# Altium footprint library PcbLib1.PcbLib: 18 footprints (part 1 of 2)
Each footprint in its own frame and in the unit in brackets; x right, y up, seen from the top. Pads: shape width x height; smd on the part's side, far side on the other; paste and mask are expansions set on the pad; w line width, h text height; cw(c..) or ccw(c..) is an arc to the next point about the centre after c.
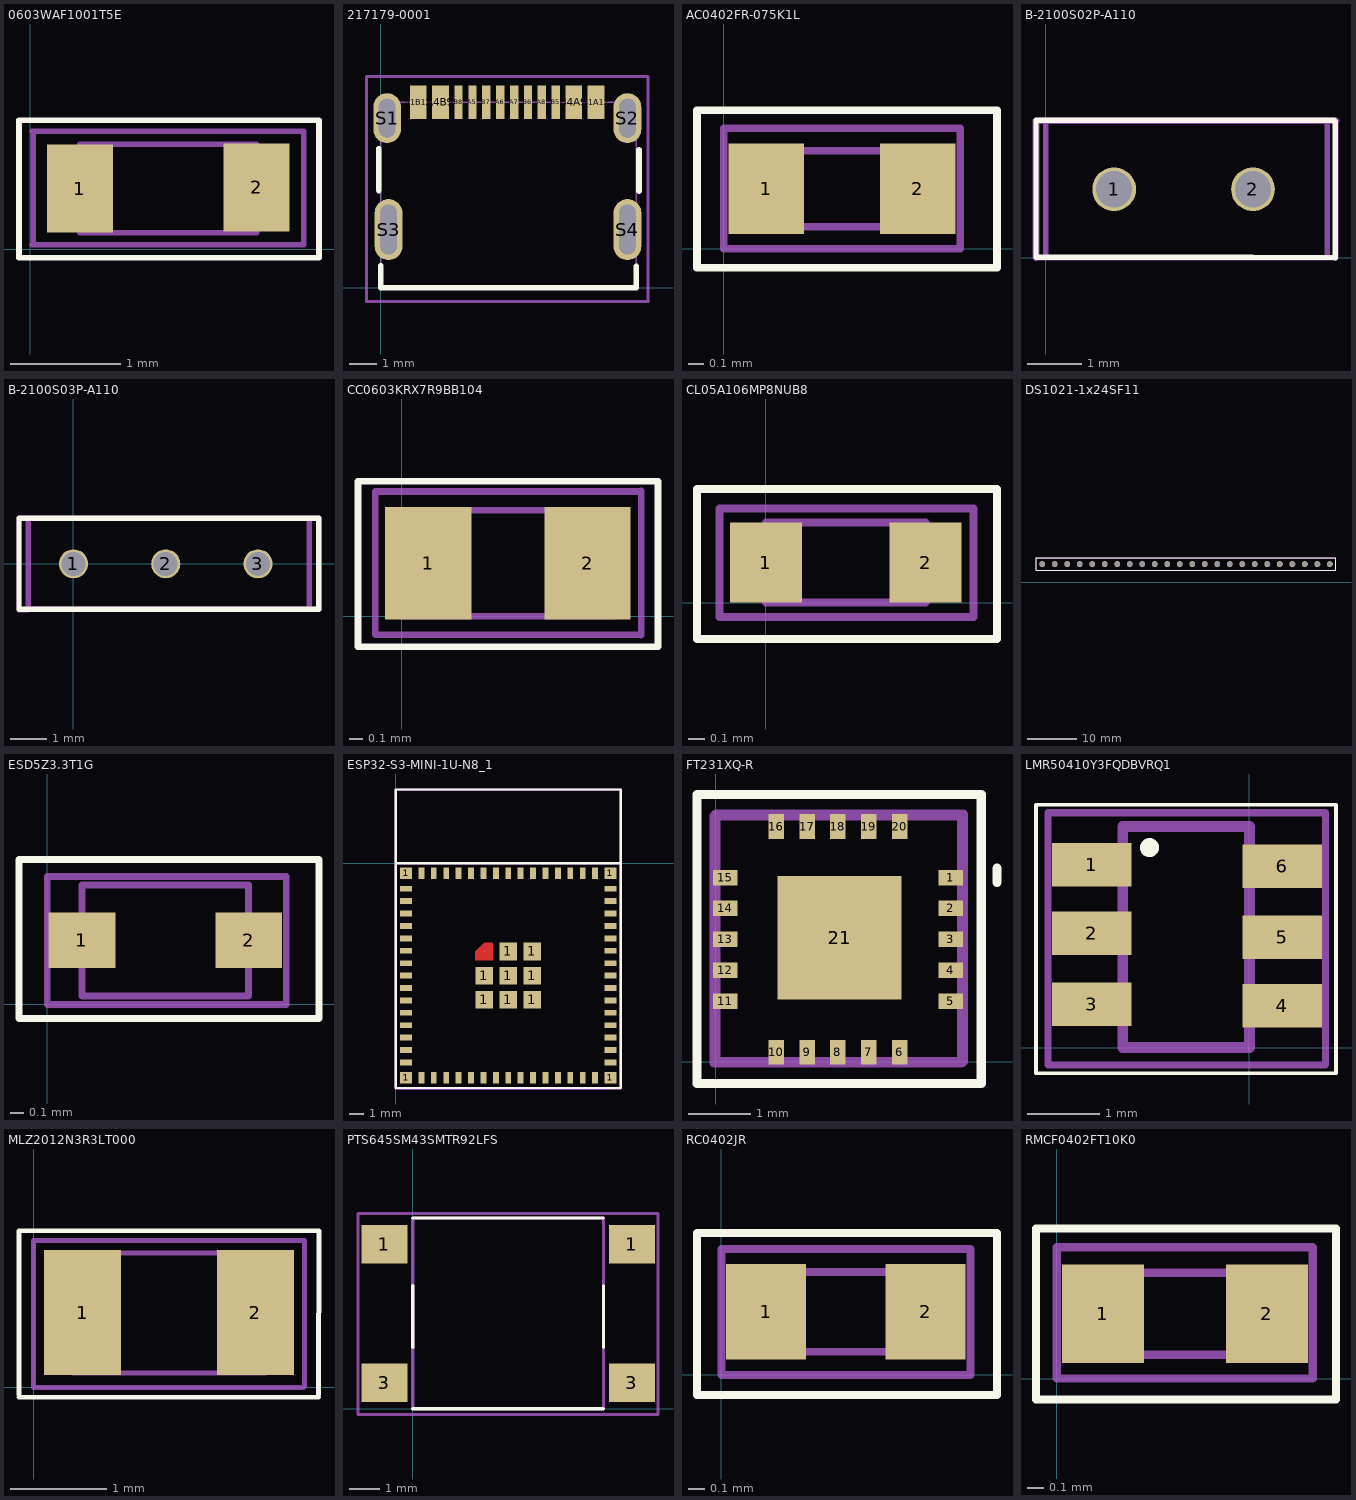
[diagram p0: the footprints below, top view; thin cyan lines are the x and y axes]

## 0603WAF1001T5E [mm]
pads (2):
  rect 0.6x0.8 smd mask+0.1: 1(0.45,0.55) 2(2.05,0.56)
Top Overlay:
  lines w0.05: -0.102,-0.077 -0.102,0.303 -0.102,0.813 -0.102,1.168 0.657,1.168 1.882,1.168 2.616,1.168 2.616,0.838 2.616,0.229 2.616,-0.076 -0.102,-0.076
Top 3D Body:
  lines w0.05: 0.45,0.15 2.05,0.15 2.05,0.95 0.45,0.95 0.45,0.15
top courtyard:
  lines w0.05: 0.02,0.04 2.48,0.04 2.48,0.56 2.48,1.06 ; 0.02,1.07 0.681,1.07 1.839,1.07 2.48,1.07 ; 0.025,0.039 0.025,1.069
3D body "0603WAF1001T5E.stp": height 0.43, standoff -0.02, extent 0.45,0.16 2.05,0.96

## 217179-0001 [mm]
pads (16):
  rect 0.6x1.2 smd mask+0: A1B12(1.35,6.68) A4B9(2.15,6.68) B1A12(7.75,6.68) B4A9(6.95,6.68)
  rect 0.3x1.2 smd mask+0: A5(3.3,6.68) A6(4.3,6.68) A7(4.8,6.68) A8(5.8,6.68) B5(6.3,6.68) B6(5.3,6.68) B7(3.8,6.68) B8(2.8,6.68)
  oval 1x1.8 hole 0.6 slot 1.4 at 90 deg unplated mask+0: S1(0.23,6.11)
  oval 1x1.8 hole 0.6 slot 1.4 at 90 deg mask+0: S2(8.88,6.11)
  oval 1x2.2 hole 0.6 slot 1.8 at 90 deg mask+0: S3(0.28,2.1) S4(8.88,2.1)
Top Overlay:
  lines w0.1: 0,0 0,0.01 ; 9.19,0.01 9.2,0 ; 9.19,0.78 9.2,0.79
  lines w0.2: -0.076,3.505 -0.076,5.005 ; 0,0.79 0,0.01 9.19,0.01 9.19,0.78 ; 9.296,3.488 9.296,4.978
Top 3D Body:
  lines w0.05: 0.28,6.67 -0.02,6.67 0,6.65 0,0 0.28,0 8.88,0 9.2,0 9.2,6.7 ; 0.28,6.68 4.8,6.68 8.88,6.68 ; 9.2,6.7 8.92,6.7 9.2,6.7
top courtyard:
  lines w0.1: -0.51,-0.49 9.64,-0.49 ; -0.51,7.61 -0.3,7.61 9.62,7.61 9.62,-0.47 ; -0.5,-0.49 -0.51,-0.48 -0.51,7.53 -0.51,7.6 -0.5,7.61
3D body "217179-0001.stp": height 1.67, standoff -2.39, extent 0.15,-0.245 9.09,6.505

## AC0402FR-075K1L [mm]
pads (2):
  rect 0.5x0.6 smd mask+0.01: 1(0.28,0.395) 2(1.28,0.395)
Top Overlay:
  lines w0.05: -0.178,-0.127 -0.178,0.686 -0.178,0.914 -0.064,0.914 0.349,0.914 1.175,0.914 1.587,0.914 1.803,0.914 1.803,-0.127 -0.178,-0.127
Top 3D Body:
  lines w0.05: 0.28,0.145 0.28,0.645 1.28,0.645 1.28,0.145 0.28,0.145
top courtyard:
  lines w0.05: 0,0.79 0,0.593 0,0.198 0,0 1.56,0 1.56,0.198 1.56,0.593 1.56,0.795 1.215,0.795 0.405,0.795 0,0.795
3D body "AC0402FR-075K1L.STEP": height 0.37, standoff 0, extent 0.28,0.15 1.28,0.65

## B-2100S02P-A110 [mm]
pads (2):
  round 0.8 hole 0.66: 1(1.25,1.25) 2(3.79,1.25)
Top Overlay:
  lines w0.1: 1.21,0.01 0.867,0.01 0.182,0.01 -0.18,0.01 -0.18,2.51 1.22,2.51 3.9,2.51 5.28,2.51 ; 1.22,0.01 3.78,0.01 5.3,0 5.3,2.49
Top 3D Body:
  lines w0.1: 0,0 5.15,0 5.15,2.5 0,2.5 0,0.01
top courtyard:
  lines w0.1: -0.18,0 5.31,0 5.31,2.5
  lines w0.12: -0.18,0 -0.18,0.295 -0.18,0.905 -0.18,1.21 ; -0.18,1.25 -0.18,2.5 ; -0.16,2.5 5.31,2.5
3D body "826629-2--3DModel-STEP-1.STEP": height 9.5, standoff -3.2, extent 0.03,-0.02 5.11,2.48

## B-2100S03P-A110 [mm]
pads (3):
  round 0.8 hole 0.66: 1(0,0) 2(2.54,0) 3(5.08,0)
Top Overlay:
  lines w0.15: -1.5,-1.25 0,-1.25 5.1,-1.25 6.75,-1.25 6.75,1.25 5.1,1.25 0,1.25 -1.5,1.25 -1.5,-1.25
Top 3D Body:
  lines w0.15: -1.24,0 -1.24,-1.25 6.49,-1.25 6.49,1.25 -1.24,1.25 -1.24,0.942 -1.24,0.317 -1.24,0.005
top courtyard:
  lines w0.15: -1.26,-1.26 -1.5,-1.26 -1.5,1.25 -1.25,1.25 0.753,1.25 4.757,1.25 6.76,1.25 6.76,-1.25 -1.25,-1.25
3D body "826629-3--3DModel-STEP-1.STEP": height 9.5, standoff -3.2, extent -1.23,-1.3 6.39,1.2

## CC0603KRX7R9BB104 [mm]
pads (2):
  rect 0.65x0.85 smd mask+0.05: 1(0.2,0.4) 2(1.4,0.4)
Top Overlay:
  lines w0.05: -0.33,-0.229 1.93,-0.229 1.93,1.016 1.451,1.016 0.226,1.016 -0.33,1.016 -0.33,-0.229
Top 3D Body:
  lines w0.05: 0,0 1.6,0 1.6,0.8 0,0.8 0,0
top courtyard:
  lines w0.05: 1.79,0.94 1.292,0.94 0.298,0.94 -0.2,0.94 -0.2,-0.14 1.8,-0.14 ; 1.803,-0.144 1.803,0.946
3D body "CC0603KRX7R9BB104.stp": height 0.9, standoff 0, extent 0,0 1.6,0.8

## CL05A106MP8NUB8 [mm]
pads (2):
  rect 0.45x0.5 smd mask+0.05: 1(0,0.25) 2(1,0.25)
Top Overlay:
  lines w0.05: -0.432,-0.229 -0.432,0.711 -0.057,0.711 1.168,0.711 1.448,0.711 1.448,-0.229 -0.432,-0.229
Top 3D Body:
  lines w0.05: 0,0 1,0 1,0.5 0,0.5 0,0
top courtyard:
  lines w0.05: -0.29,-0.09 -0.29,0.59 1.3,0.59 1.3,-0.09 -0.29,-0.09
3D body "CL05A106MP8NUB8.stp": height 0.9, standoff 0, extent 0,0 1,0.5

## DS1021-1x24SF11 [mm]
pads (24):
  round 1.2 hole 1.02 mask+0.13: 1(17.59,3.72) 2(20.13,3.72) 3(22.67,3.72) 4(25.21,3.72) 5(27.75,3.72) 6(30.29,3.72) 7(32.83,3.72) 8(35.37,3.72) 9(37.91,3.72) 10(40.45,3.72) 11(42.99,3.72) 12(45.53,3.72) 13(48.07,3.72) 14(50.61,3.72) 15(53.15,3.72) 16(55.69,3.72) 17(58.23,3.72) 18(60.77,3.72) 19(63.31,3.72) 20(65.85,3.72) 21(68.39,3.72) 22(70.93,3.72) 23(73.47,3.72) 24(76.01,3.72)
Top Overlay:
  lines w0.15: 16.33,2.5 16.33,5 77.25,5 77.25,2.5 16.33,2.5
Top 3D Body:
  lines w0.05: 16.34,2.52 77.26,2.52 77.26,4.95 16.34,4.95 16.34,2.52
top courtyard:
  lines w0.15: 16.34,2.54 16.34,3.71 ; 16.34,3.72 16.34,4.97 77.25,4.97 77.25,2.5 16.38,2.5
3D body "826629-6--3DModel-STEP-1.STEP": height 9.24, standoff -3.46, extent 61.98,2.45 77.22,4.95
3D body "826629-6--3DModel-STEP-1.STEP": height 9.24, standoff -3.46, extent 46.73,2.45 61.97,4.95
3D body "826629-6--3DModel-STEP-1.STEP": height 9.24, standoff -3.46, extent 31.51,2.5 46.75,5
3D body "826629-6--3DModel-STEP-1.STEP": height 9.24, standoff -3.46, extent 16.29,2.45 31.53,4.95

## ESD5Z3.3T1G [mm]
pads (2):
  rect 0.48x0.4 smd mask+0: 1(0.25,0.46) 2(1.45,0.46)
Top Overlay:
  lines w0.05: -0.203,-0.102 1.956,-0.102 1.956,1.041 1.501,1.041 0.276,1.041 -0.203,1.041 -0.203,0.768 -0.203,0.197 -0.203,-0.089
Top 3D Body:
  lines w0.05: 0.25,0.06 0.25,0.86 0.85,0.86 1.45,0.86 1.45,0.06 0.25,0.06
top courtyard:
  lines w0.05: 0,0 0,0.92 1.72,0.92 1.72,0 0,0
3D body "ESD5Z3.3T1G.stp": height 0.7, standoff 0, extent 0.05,0.06 1.65,0.86

## ESP32-S3-MINI-1U-N8_1 [mm]
pads (73):
  rect 0.8x0.8 smd mask+0.05: 1(0.7,-14.7) 1(0.7,-0.7) 1(14.7,-14.7) 1(14.7,-0.7)
  rect 0.8x0.4 smd mask+0.05: 1(0.7,-2.6) 1(0.7,-1.75) 1(14.7,-4.3) 1(14.7,-3.45) 3(0.7,-3.45) 4(0.7,-4.3) 5(0.7,-5.15) 6(0.7,-6) 7(0.7,-6.85) 8(0.7,-7.7) 9(0.7,-8.55) 10(0.7,-9.4) 11(0.7,-10.25) 12(0.7,-11.1) 13(0.7,-11.95) 14(0.7,-12.8) 15(0.7,-13.65) 31(14.7,-13.65) 32(14.7,-12.8) 33(14.7,-11.95) 34(14.7,-11.1) 35(14.7,-10.25) 36(14.7,-9.4) 37(14.7,-8.55) 38(14.7,-7.7) 39(14.7,-6.85) 40(14.7,-6) 41(14.7,-5.15) 44(14.7,-2.6) 45(14.7,-1.75)
  rect 0.4x0.8 smd mask+0.05: 1(1.75,-0.7) 1(2.6,-0.7) 1(3.45,-0.7) 1(4.3,-0.7) 1(5.15,-0.7) 1(6,-0.7) 1(6.85,-0.7) 1(7.7,-0.7) 1(8.55,-0.7) 1(9.4,-0.7) 1(10.25,-0.7) 1(11.1,-0.7) 1(11.95,-0.7) 1(12.8,-0.7) 1(13.65,-0.7) 16(1.75,-14.7) 17(2.6,-14.7) 18(3.45,-14.7) 19(4.3,-14.7) 20(5.15,-14.7) 21(6,-14.7) 22(6.85,-14.7) 23(7.7,-14.7) 24(8.55,-14.7) 25(9.4,-14.7) 26(10.25,-14.7) 27(11.1,-14.7) 28(11.95,-14.7) 29(12.8,-14.7) 30(13.65,-14.7)
  rect 1.2x1.2 smd mask+0.05: 1(6.05,-9.35) 1(6.05,-7.7) 1(7.7,-9.35) 1(7.7,-7.7) 1(7.7,-6.05) 1(9.35,-9.35) 1(9.35,-7.7) 1(9.35,-6.05)
  round 0.025 smd mask+0.05: 1(6.05,-6.05)
Top Layer:
  region: 5.45,-6.05 6.06,-5.45 6.65,-5.45 6.65,-6.65 5.45,-6.65
Top Overlay:
  lines w0.15: 0,0 0,5.05 15.4,5.05 15.4,0 ; 0,0 15.4,0 ; 0,0 0,-15.4 15.4,-15.4 15.4,0
Top 3D Body:
  lines w0.05: -0.051,-15.469 0,-15.418 0,0 0,5.08 15.367,5.08 15.418,5.029 15.418,-15.469 -0.051,-15.469
top courtyard:
  lines w0.15: 15.4,0 0,0 ; 0,0 0,5.03 15.4,5.03 15.4,-15.4 0,-15.4 0,0
3D body "User Library-ESP32-S3-MINI-1.sldprt": height 2.4, standoff -0.02, extent -0.01,-15.37 15.39,5.13

## FT231XQ-R [mm]
pads (21):
  rect 0.4x0.25 smd mask+0.05: 1(3.8,2.975) 2(3.8,2.475) 3(3.8,1.975) 4(3.8,1.475) 5(3.8,0.975) 11(0.15,0.975) 12(0.15,1.475) 13(0.15,1.975) 14(0.15,2.475) 15(0.15,2.975)
  rect 0.25x0.4 smd mask+0.05: 6(2.975,0.15) 7(2.475,0.15) 8(1.975,0.15) 9(1.475,0.15) 10(0.975,0.15) 16(0.975,3.8) 17(1.475,3.8) 18(1.975,3.8) 19(2.475,3.8) 20(2.975,3.8)
  rect 2x2 smd mask+0.05: 21(2,2)
Top Overlay:
  lines w0.15: 4.547,2.899 4.547,3.124 ; -0.305,-0.356 -0.305,4.318 4.293,4.318 4.293,-0.356 -0.305,-0.356
Top 3D Body:
  lines w0.15: -0.025,-0.025 3.9,-0.025 3.975,-0.025 3.975,3.975 -0.025,3.975 -0.025,-0.025
top courtyard:
  lines w0.15: 0,0 0,4 4,4 4,0 0,0
3D body "FT231XQ-R.stp": height 0.8, standoff 0, extent -0.07,-0.07 4.03,4.03

## LMR50410Y3FQDBVRQ1 [mm]
pads (6):
  rect 1.1x0.6 smd mask+0: 1(-2.175,2.525) 2(-2.175,1.575) 3(-2.175,0.6) 4(0.45,0.575) 5(0.45,1.525) 6(0.45,2.5)
Top Overlay:
  circle w0.15: c-1.38,2.76 r0.056
  lines w0.05: -2.946,-0.356 -2.946,3.353 1.194,3.353 1.194,-0.356 -2.946,-0.356
Top 3D Body:
  lines w0.15: -1.75,0 -1.75,3.05 ; -1.75,0 0,0 ; -1.75,0 -1.75,3.05 ; -1.75,3.05 0,3.05 ; -1.75,3.05 0,3.05 ; 0,0 0,3.05 ; 0,0 0,3.05
top courtyard:
  lines w0.1: -2.78,-0.24 -2.78,3.24 -1.815,3.24 0.115,3.24 1.05,3.24 1.05,-0.24 -2.78,-0.24
3D body "LMR50410Y3FQDBVRQ1.stp": height 1.2, standoff 0, extent -2.27,0.08 0.53,2.98

## MLZ2012N3R3LT000 [mm]
pads (2):
  rect 0.8x1.3 smd mask+0.05: 1(0.51,0.78) 2(2.31,0.78)
Top Overlay:
  lines w0.05: -0.152,-0.102 0,-0.102 2.83,-0.102 2.966,-0.102 ; -0.152,-0.076 -0.152,1.626 ; -0.152,1.632 0,1.632 0.33,1.632 2.83,1.632 2.972,1.632 ; 2.966,-0.076 2.972,1.626
Top 3D Body:
  lines w0.05: 0.41,0.15 0.41,1.4 2.41,1.4 2.41,0.15 0.41,0.15
top courtyard:
  lines w0.05: 2.81,0 0,0 0,1.53 2.82,1.53 2.82,0.01
3D body "MLZ2012N3R3LT000.stp": height 1.05, standoff 0, extent 0.41,0.15 2.41,1.4

## PTS645SM43SMTR92LFS [mm]
pads (4):
  rect 1.5x1.25 smd mask+0.05: 1(-0.92,5.35) 1(7.12,5.35) 3(-0.92,0.85) 3(7.12,0.85)
Top Overlay:
  lines w0.1: -0.01,6.2 6.2,6.2 ; 0,0 6.2,0 ; 0,2 0,4 ; 6.2,2 6.2,4
Top 3D Body:
  lines w0.1: 0,0 6.2,0 6.2,6.2 0,6.2 0,0
top courtyard:
  lines w0.1: -1.78,-0.18 -1.78,1.322 -1.78,4.907 -1.78,6.34 7.97,6.34 7.97,-0.18 -1.77,-0.18
3D body "PTS645SM43SMTR92LFS.stp": height 4.3, standoff 0, extent -1.38,0.07 7.62,6.07

## RC0402JR [mm]
pads (2):
  rect 0.5x0.6 smd mask+0.01: 1(0.28,0.395) 2(1.28,0.395)
Top Overlay:
  lines w0.05: -0.152,-0.127 1.727,-0.127 1.727,0.076 1.727,0.686 1.727,0.889 1.476,0.889 0.251,0.889 -0.152,0.889 ; -0.152,-0.126 -0.152,0.151 -0.152,0.661 -0.152,0.89
Top 3D Body:
  lines w0.05: 0.28,0.145 0.28,0.645 1.28,0.645 1.28,0.145 0.28,0.145
top courtyard:
  lines w0.05: 0,0 1.56,0 1.56,0.79 0,0.79 0,0
3D body "AC0402FR-075K1L.STEP": height 0.37, standoff 0, extent 0.28,0.15 1.28,0.65

## RMCF0402FT10K0 [mm]
pads (2):
  rect 0.5x0.6 smd mask+0.01: 1(0.28,0.395) 2(1.28,0.395)
Top Overlay:
  lines w0.05: -0.127,-0.127 -0.127,0.151 -0.127,0.661 -0.127,0.914 0.226,0.914 1.451,0.914 1.702,0.914 1.702,0.686 1.702,0.076 1.702,-0.127 -0.127,-0.127
Top 3D Body:
  lines w0.05: 0.28,0.145 0.28,0.645 1.28,0.645 1.28,0.145 0.28,0.145
top courtyard:
  lines w0.05: 0,0 0,0.8 1.55,0.8 1.56,0.8 1.56,0 0,0
3D body "AC0402FR-075K1L.STEP": height 0.37, standoff 0, extent 0.28,0.15 1.28,0.65